# EAGLE library part DHN-04F-T-V (library SamacSys_Parts)
DIP Switches / SIP Switches Half Pitch Dip switch 1.6mm height Source: Datasheet <http://www.dip.com.tw/en/en-product-information/en-switch002/item/2377-dhnf>
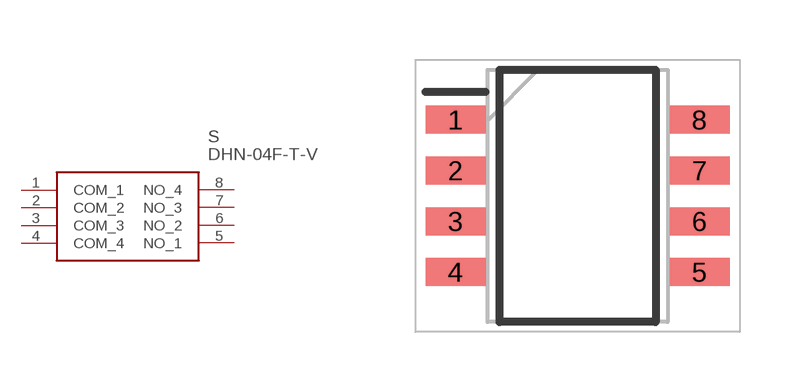
[diagram p184: symbol with the pads of SOIC127P670X160-8N; footprint SOIC127P670X160-8N]

Designator prefix S

## DHN-04F-T-V (DESCRIPTION: DIP Switches / SIP Switches Half Pitch Dip switch 1.6mm height; HEIGHT: 1.6mm; MANUFACTURER_NAME: Diptronics; MANUFACTURER_PART_NUMBER: DHN-04F-T-V; MOUSER_PART_NUMBER: 113-DHN04FTV; MOUSER_PRICE-STOCK: https://www.mouser.co.uk/ProductDetail/Diptronics/DHN-04F-T-V?qs=MLItCLRbWsxdfBTmllrATA%3D%3D)  [SOIC127P670X160-8N]
1  COM_1
2  COM_2
3  COM_3
4  COM_4
5  NO_1
6  NO_2
7  NO_3
8  NO_4

## Footprint SOIC127P670X160-8N (pad centres in mm)
DHN
smd 1.5 x 0.7: 1 -3.05,1.905; 2 -3.05,0.635; 3 -3.05,-0.635; 4 -3.05,-1.905; 5 3.05,-1.905; 6 3.05,-0.635; 7 3.05,0.635; 8 3.05,1.905